# EAGLE library part 74LVC1G11 (library kwoo)
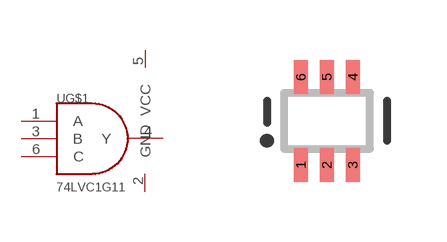
[diagram p41: symbol with the pads of 6-SOT23; footprint 6-SOT23]

Designator prefix U; gates G$1=AND-3 G$2=SUPPLY

## 74LVC1G11  [6-SOT23]
1  G$1:A
2  G$2:GND
3  G$1:B
4  G$1:Y
5  G$2:VCC
6  G$1:C

## Footprint 6-SOT23 (pad centres in mm)
smd 0.35 x 0.85: 1 -0.65,-1.1; 2 0,-1.1; 3 0.65,-1.1; 4 0.65,1.1; 5 0,1.1; 6 -0.65,1.1